# Altium footprint library MUX_Connectivity.PcbLib: 9 footprints
Each footprint in its own frame and in the unit in brackets; x right, y up, seen from the top. Pads: shape width x height; smd on the part's side, far side on the other; paste and mask are expansions set on the pad; w line width, h text height; cw(c..) or ccw(c..) is an arc to the next point about the centre after c.
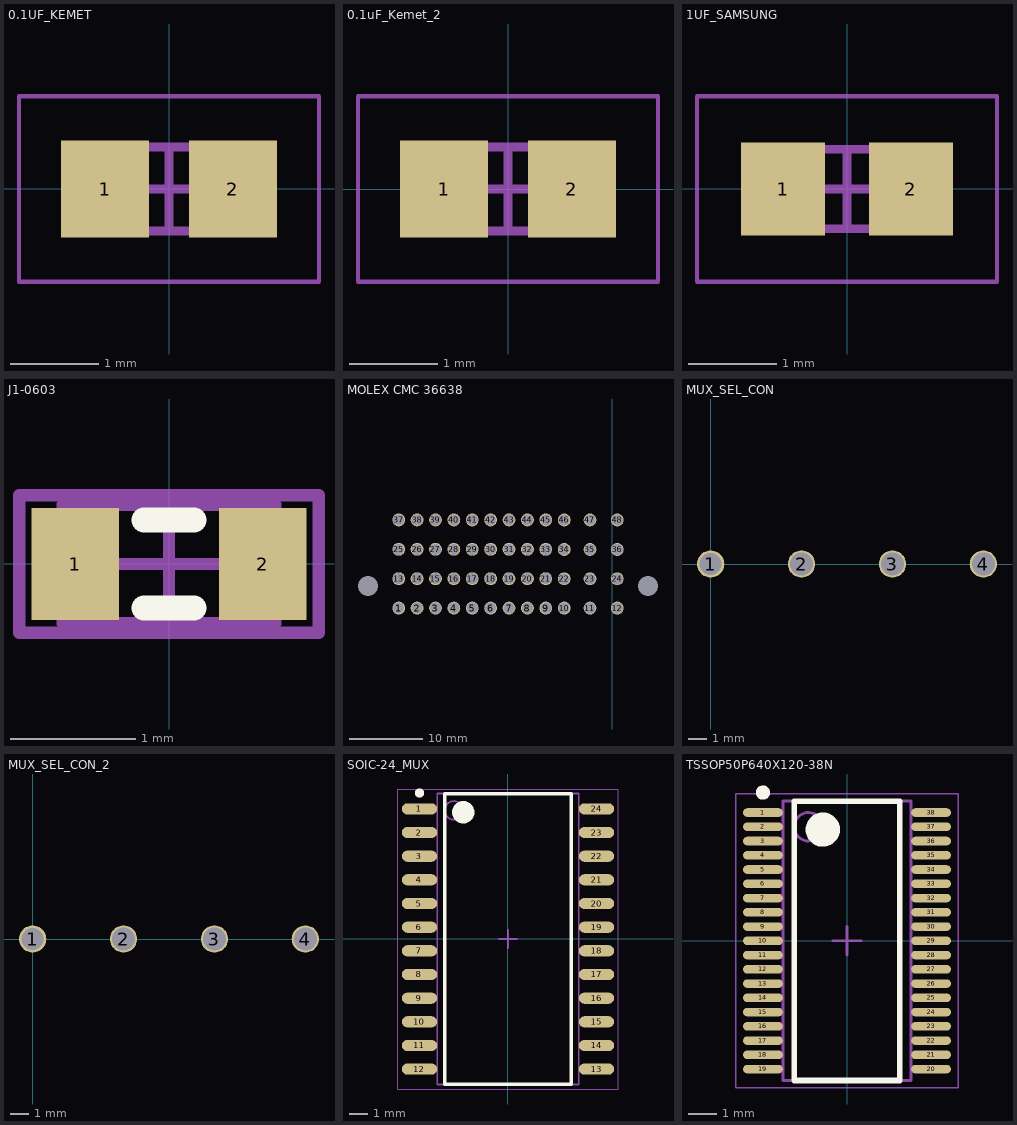
[diagram p0: the footprints below, top view; thin cyan lines are the x and y axes]

## 0.1UF_KEMET [mm]
pads (2):
  rect 1x1.1 smd: 1(-0.725,0) 2(0.725,0)
Mechanical 13:
  lines w0.1: -0.875,-0.475 0.875,-0.475 0.875,0.475 -0.875,0.475 -0.875,-0.475
Mechanical 15:
  lines w0.05: -1.7,-1.05 1.7,-1.05 1.7,1.05 -1.7,1.05 -1.7,-1.05
  lines w0.1: -0.475,0 0.475,0 ; 0,-0.475 0,0.475
3D body "CAPC1608X09M.step": height 0.92, standoff 0, extent -0.875,-0.475 0.875,0.475

## 0.1uF_Kemet_2 [mm]
pads (2):
  rect 1x1.1 smd: 1(-0.725,0) 2(0.725,0)
Mechanical 13:
  lines w0.1: -0.875,-0.475 -0.875,0.475 0.875,0.475 0.875,-0.475 -0.875,-0.475
Mechanical 15:
  lines w0.05: -1.7,-1.05 -1.7,1.05 1.7,1.05 1.7,-1.05 -1.7,-1.05
  lines w0.1: -0.475,0 0.475,0 ; 0,-0.475 0,0.475
3D body "CAPC1608X09M.step": height 0.92, standoff 0, extent -0.875,-0.475 0.875,0.475

## 1UF_SAMSUNG [mm]
pads (2):
  rect 0.95x1.05 smd: 1(-0.725,0) 2(0.725,0)
Mechanical 13:
  lines w0.1: -0.85,-0.45 -0.85,0.45 0.85,0.45 0.85,-0.45 -0.85,-0.45
Mechanical 15:
  lines w0.05: -1.7,-1.05 -1.7,1.05 1.7,1.05 1.7,-1.05 -1.7,-1.05
  lines w0.1: -0.45,0 0.45,0 ; 0,-0.45 0,0.45
3D body "CAPC1608X09M.step": height 0.9, standoff 0, extent -0.85,-0.45 0.85,0.45

## J1-0603 [mm]
pads (2):
  rect 0.7x0.9 smd: 1(-0.75,0) 2(0.75,0)
Top Overlay:
  lines w0.2: -0.2,-0.35 0.2,-0.35 ; -0.2,0.35 0.2,0.35
Mechanical 13:
  lines w0.1: -0.85,-0.475 0.85,-0.475 0.85,0.475 -0.85,0.475 -0.85,-0.475
Mechanical 15:
  lines w0.1: -0.475,0 0.475,0 ; 0,-0.475 0,0.475 ; -1.2,-0.55 1.2,-0.55 1.2,0.55 -1.2,0.55 -1.2,-0.55
3D body: height 0.9, standoff 0, extent -0.85,-0.475 0.85,0.475

## MOLEX CMC 36638 [mm]
pads (50):
  round 1.75 hole 1.5 paste+0: 1(-29.01,-79.835) 2(-26.51,-79.835) 3(-24.01,-79.835) 4(-21.51,-79.835) 5(-19.01,-79.835) 6(-16.51,-79.835) 7(-14.01,-79.835) 8(-11.51,-79.835) 9(-9.01,-79.835) 10(-6.502,-79.832) 11(-2.997,-79.832) 12(0.711,-79.832) 13(-29.01,-75.835) 14(-26.51,-75.835) 15(-24.01,-75.835) 16(-21.51,-75.835) 17(-19.01,-75.835) 18(-16.51,-75.835) 19(-14.01,-75.835) 20(-11.51,-75.835) 21(-9.01,-75.835) 22(-6.502,-75.844) 23(-2.997,-75.844) 24(0.711,-75.844) 25(-29.01,-71.835) 26(-26.51,-71.835) 27(-24.01,-71.835) 28(-21.51,-71.835) 29(-19.01,-71.835) 30(-16.51,-71.835) 31(-14.01,-71.835) 32(-11.51,-71.835) 33(-9.01,-71.835) 34(-6.502,-71.857) 35(-2.997,-71.857) 36(0.711,-71.857) 37(-29.01,-67.835) 38(-26.51,-67.835) 39(-24.01,-67.835) 40(-21.51,-67.835) 41(-19.01,-67.835) 42(-16.51,-67.835) 43(-14.01,-67.835) 44(-11.51,-67.835) 45(-9.01,-67.835) 46(-6.502,-67.843) 47(-2.997,-67.843) 48(0.711,-67.843)
  round 0 hole 2.7: 49(4.902,-76.835) 50(-33.198,-76.835)
3D body "Latch_Connector.stp": height 29.35, standoff -3.55, extent -43.398,-121.117 15.102,-64.897

## MUX_SEL_CON [mm]
pads (4):
  round 1.5 hole 1.2: 1(0,0)
  round 1.5 hole 1.27: 2(5,0) 3(10,0) 4(15,0)
3D body "395430004.stp": height 15.63, standoff -2.43, extent -2.502,-4.826 17.488,4.572

## MUX_SEL_CON_2 [mm]
pads (4):
  round 1.5 hole 1.2: 1(0,0)
  round 1.5 hole 1.27: 2(5,0) 3(10,0) 4(15,0)
3D body "395430004.stp": height 15.63, standoff -2.43, extent -2.502,-4.826 17.488,4.572

## SOIC-24_MUX [mm]
pads (24):
  oval 1.9x0.6 smd: 1(-4.75,6.985) 2(-4.75,5.715) 3(-4.75,4.445) 4(-4.75,3.175) 5(-4.75,1.905) 6(-4.75,0.635) 7(-4.75,-0.635) 8(-4.75,-1.905) 9(-4.75,-3.175) 10(-4.75,-4.445) 11(-4.75,-5.715) 12(-4.75,-6.985) 13(4.75,-6.985) 14(4.75,-5.715) 15(4.75,-4.445) 16(4.75,-3.175) 17(4.75,-1.905) 18(4.75,-0.635) 19(4.75,0.635) 20(4.75,1.905) 21(4.75,3.175) 22(4.75,4.445) 23(4.75,5.715) 24(4.75,6.985)
Top Overlay:
  circle w0.6: c-2.4,6.8 r0.3
  circle w0.25: c-4.75,7.835 r0.125
  lines w0.2: -3.4,-7.8 3.4,-7.8 3.4,7.8 -3.4,7.8 -3.4,-7.8
Mechanical 13:
  circle w0.1: c-2.9,6.9 r0.5
  lines w0.1: -3.8,-7.8 3.8,-7.8 3.8,7.8 -3.8,7.8 -3.8,-7.8
Mechanical 15:
  lines w0.05: -5.925,-8.05 5.925,-8.05 5.925,8.05 -5.925,8.05 -5.925,-8.05
  lines w0.1: -0.5,0 0.5,0 ; 0,-0.5 0,0.5
3D body "SOIC127P1030X265-24N.step": height 2.65, standoff 0, extent -5.15,-7.8 5.15,7.8

## TSSOP50P640X120-38N [mm]
pads (38):
  oval 1.4x0.3 smd: 1(-2.95,4.5) 2(-2.95,4) 3(-2.95,3.5) 4(-2.95,3) 5(-2.95,2.5) 6(-2.95,2) 7(-2.95,1.5) 8(-2.95,1) 9(-2.95,0.5) 10(-2.95,0) 11(-2.95,-0.5) 12(-2.95,-1) 13(-2.95,-1.5) 14(-2.95,-2) 15(-2.95,-2.5) 16(-2.95,-3) 17(-2.95,-3.5) 18(-2.95,-4) 19(-2.95,-4.5) 20(2.95,-4.5) 21(2.95,-4) 22(2.95,-3.5) 23(2.95,-3) 24(2.95,-2.5) 25(2.95,-2) 26(2.95,-1.5) 27(2.95,-1) 28(2.95,-0.5) 29(2.95,0) 30(2.95,0.5) 31(2.95,1) 32(2.95,1.5) 33(2.95,2) 34(2.95,2.5) 35(2.95,3) 36(2.95,3.5) 37(2.95,4) 38(2.95,4.5)
Top Overlay:
  circle w0.25: c-2.95,5.2 r0.125
  circle w0.6: c-0.85,3.9 r0.3
  lines w0.2: -1.85,-4.9 -1.85,4.9 1.85,4.9 1.85,-4.9 -1.85,-4.9
Mechanical 13:
  circle w0.1: c-1.35,4 r0.5
  lines w0.1: -2.25,-4.9 -2.25,4.9 2.25,4.9 2.25,-4.9 -2.25,-4.9
Mechanical 15:
  lines w0.05: -3.9,-5.15 -3.9,5.15 3.9,5.15 3.9,-5.15 -3.9,-5.15
  lines w0.1: -0.5,0 0.5,0 ; 0,-0.5 0,0.5
3D body "TSSOP50P640X120-38N.step": height 1.2, standoff 0, extent -3.2,-4.9 3.2,4.9